# Altium integrated library LM385.IntLib: 1 symbol
Pins are listed as number, name and electrical type; pins without a type are passive.

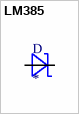
[diagram p0: symbol LM385]

## LM385
designator D
Shunt Voltage Reference IC -2.43%, +2.02% SOT-23-3; MP: LM385; MF: ON Semiconductor; Availability: Unavailable; Package: SOT-23 ON Semiconductor; SnapEDA_Link: https://www.snapeda.com/parts/LM385/ON%20Semiconductor/view-part/4218322/?ref=snap; Value: *; Price: None
footprint TO-92
pins: NEG, POS